# Altium schematic symbol library GMK325AB7106MMHP.SchLib: 1 symbol
Pins are listed as number, name and electrical type; pins without a type are passive.

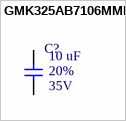
[diagram p0: symbol GMK325AB7106MMHP]

## GMK325AB7106MMHP
designator C?  Rated Voltage: 35V  Tolerance: 20%  Capacitence: 10 uF  (hidden comment: GMK325AB7106MMHP)
CAP CER 10UF 35V X7R 1210; MFR: Taiyo Yuden; PN: GMK325AB7106MMHP; ComponentLink1Description: Datasheet; ComponentLink1URL: https://ds.yuden.co.jp/TYCOMPAS/ut/detail?pn=GMK325AB7106MMHP%20&u=M; Temperature Coefficient: X7R; Package: 1210; Footprint: C1210; Supplier 1: Digi-Key; Supplier Part Number 1: 587-GMK325AB7106MMHPCT-ND
footprint C1210_LESS_22UF (A generic 1210 footprint)
pins: 1, 2